# Altium footprint library TPS54339EDDAR.PCBLIB: 3 footprints
Each footprint in its own frame and in the unit in brackets; x right, y up, seen from the top. Pads: shape width x height; smd on the part's side, far side on the other; paste and mask are expansions set on the pad; w line width, h text height; cw(c..) or ccw(c..) is an arc to the next point about the centre after c.
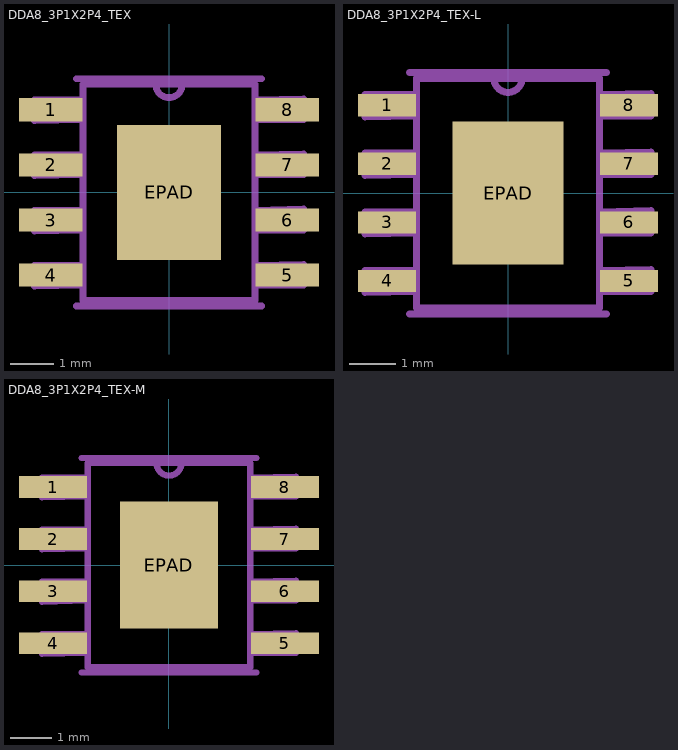
[diagram p0: the footprints below, top view; thin cyan lines are the x and y axes]

## DDA8_3P1X2P4_TEX [mil]
pads (9):
  rect 57.5x21 smd: 1(-107.25,75) 2(-107.25,25) 3(-107.25,-25) 4(-107.25,-75) 5(107.25,-75) 6(107.25,-25) 7(107.25,25) 8(107.25,75)
  rect 94.49x122.05 smd paste+0: EPAD(0,0)
Top Paste:
  region: -43.31,57.09 -43.31,3.94 43.31,3.94 43.31,57.09
  region: -43.31,-3.94 -43.31,-57.09 43.31,-57.09 43.31,-3.94
tDocu:
  lines w6: -12,98 ccw(c0,98) 12,98 ; -122,-85 -122,-66 -78,-66 -78,-84 -122,-85 ; -122,-35 -122,-16 -78,-16 -78,-34 -122,-35 ; -122,15 -122,34 -78,34 -78,16 -122,15 ; -122,65 -122,84 -78,84 -78,66 -122,65 ; -78,-98 78,-98 78,98 -78,98 -78,-98 ; 78,-84 78,-66 122,-65 122,-84 78,-84 ; 78,-34 78,-16 122,-15 122,-34 78,-34 ; 78,16 78,34 122,35 122,16 78,16 ; 78,66 78,84 122,85 122,66 78,66
  text "*" at -86,45 h77.5
tPlace:
  lines w6: -84,-103 84,-103 ; -84,103 84,103
  text "*" at -140,91 h77.5

## DDA8_3P1X2P4_TEX-L [mil]
pads (9):
  rect 49.5x19 smd: 1(-103.25,75) 2(-103.25,25) 3(-103.25,-25) 4(-103.25,-75) 5(103.25,-75) 6(103.25,-25) 7(103.25,25) 8(103.25,75)
  rect 94.49x122.05 smd paste+0: EPAD(0,0)
Top Paste:
  region: -43.31,57.09 -43.31,3.94 43.31,3.94 43.31,57.09
  region: -43.31,-3.94 -43.31,-57.09 43.31,-57.09 43.31,-3.94
tDocu:
  lines w6: -12,98 ccw(c0,98) 12,98 ; -122,-85 -122,-66 -78,-66 -78,-84 -122,-85 ; -122,-35 -122,-16 -78,-16 -78,-34 -122,-35 ; -122,15 -122,34 -79,34 -78,16 -122,15 ; -122,65 -122,84 -79,84 -78,66 -122,65 ; -78,-98 78,-98 78,98 -78,98 -78,-98 ; 78,-66 79,-84 122,-84 122,-65 78,-66 ; 78,-34 78,-16 122,-15 122,-34 78,-34 ; 78,16 78,34 122,35 122,16 78,16 ; 78,66 78,84 122,85 122,66 78,66
  text "*" at -86,45 h77.5
tPlace:
  lines w6: -84,-103 84,-103 ; -84,103 84,103
  text "*" at -136,89 h77.5

## DDA8_3P1X2P4_TEX-M [mil]
pads (9):
  rect 65.5x21 smd: 1(-111.25,75) 2(-111.25,25) 3(-111.25,-25) 4(-111.25,-75) 5(111.25,-75) 6(111.25,-25) 7(111.25,25) 8(111.25,75)
  rect 94.49x122.05 smd paste+0: EPAD(0,0)
Top Paste:
  region: -43.31,57.09 -43.31,3.94 43.31,3.94 43.31,57.09
  region: -43.31,-3.94 -43.31,-57.09 43.31,-57.09 43.31,-3.94
tDocu:
  lines w6: -12,98 ccw(c0,98) 12,98 ; -122,-85 -122,-66 -78,-66 -78,-84 -122,-85 ; -122,-35 -122,-16 -78,-16 -78,-34 -122,-35 ; -122,15 -122,34 -79,34 -78,16 -122,15 ; -122,65 -122,84 -79,84 -78,66 -122,65 ; -78,-98 78,-98 78,98 -78,98 -78,-98 ; 78,-66 79,-84 122,-84 122,-65 78,-66 ; 78,-34 78,-16 122,-15 122,-34 78,-34 ; 78,16 78,34 122,35 122,16 78,16 ; 78,66 78,84 122,85 122,66 78,66
  text "*" at -86,45 h77.5
tPlace:
  lines w6: -84,-103 84,-103 ; -84,103 84,103
  text "*" at -144,91 h77.5